# Altium schematic symbol library SOT-23-Diodes-Inc.SchLib: 6 symbols
Pins are listed as number, name and electrical type; pins without a type are passive.

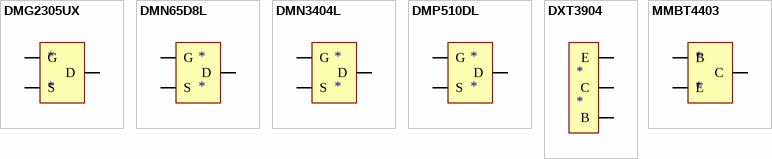
[diagram p0: symbols DMG2305UX to MMBT4403]

## DMG2305UX
designator *
P-MOSFET
footprint SOT105P240X110-3N (SOT23, 3-Leads, Body 2.90x2.40mm, Pitch 1.05mm, IPC Medium Density)
pins: 1 G, 2 S, 3 D

## DMN65D8L
designator *
N-MOSFET
footprint SOT105P240X110-3N (SOT23, 3-Leads, Body 2.90x2.40mm, Pitch 1.05mm, IPC Medium Density)
pins: 1 G, 2 S, 3 D

## DMN3404L
designator *
N-MOSFET
footprint SOT105P240X110-3N (SOT23, 3-Leads, Body 2.90x2.40mm, Pitch 1.05mm, IPC Medium Density)
pins: 1 G, 2 S, 3 D

## DMP510DL
designator *
P-MOSFET
footprint SOT105P240X110-3N (SOT23, 3-Leads, Body 2.90x2.40mm, Pitch 1.05mm, IPC Medium Density)
pins: 1 G, 2 S, 3 D

## DXT3904
designator *
NPN
footprint SOT89-Diodes-inc (SOT89, 3-Leads, Body 4.50x2.45mm, Pitch 1.50mm, Lead Span 4.1mm, IPC Medium Density)
pins: b B, c C, e E

## MMBT4403
designator *
PNP
footprint MMBT4403 (SOT23, 3-Leads, Body 2.90x2.40mm, Pitch 0.90mm, IPC Medium Density)
pins: 1 B, 2 E, 3 C